# Altium footprint library conics_pcb_alt.PcbLib: 49 footprints (part 1 of 4)
Each footprint in its own frame and in the unit in brackets; x right, y up, seen from the top. Pads: shape width x height; smd on the part's side, far side on the other; paste and mask are expansions set on the pad; w line width, h text height; cw(c..) or ccw(c..) is an arc to the next point about the centre after c.
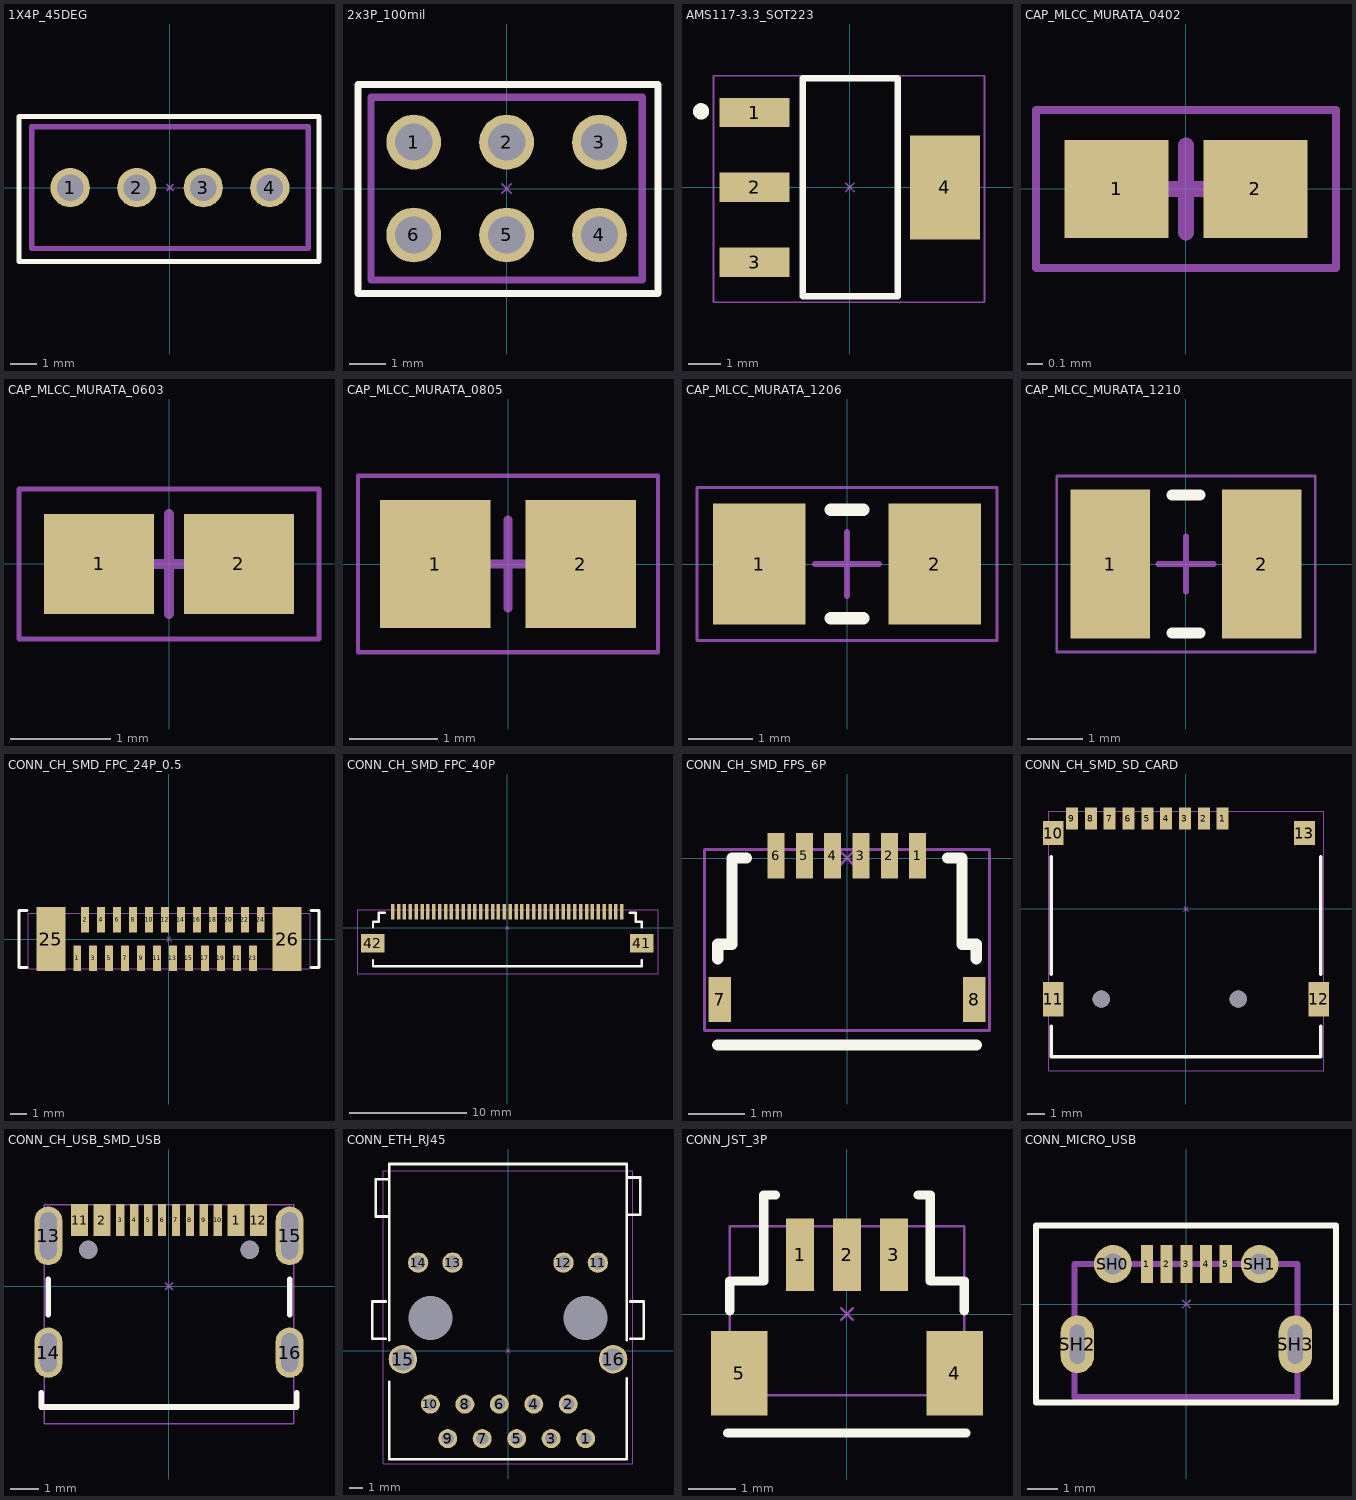
[diagram p0: the footprints below, top view; thin cyan lines are the x and y axes]

## 1X4P_45DEG [mm]
pads (4):
  round 1.5 hole 1.02: 1(-3.81,0) 2(-1.27,0) 3(1.27,0) 4(3.81,0)
Top Overlay:
  lines w0.2: -5.766,-2.819 5.69,-2.819 5.69,2.718 -5.766,2.718 -5.766,-2.819
Mechanical 15:
  lines w0.051: -0.127,-0.127 0,0 ; -0.127,0.127 0,0 ; 0.127,-0.127 0,0 ; 0.127,0.127 0,0
  lines w0.2: -5.28,-2.325 5.28,-2.325 5.28,2.325 -5.28,2.325 -5.28,-2.325
  text "'.Designator'" at -4.892,0.415 h1.02
3D body "DS1022_black_1x04p_100mil_TypeD_rev1.0.STEP": height 2.5, standoff -3, extent -5.029,-0.305 5.131,10.055

## 2x3P_100mil [mm]
pads (6):
  round 1.5 hole 1.02: 1(-2.54,1.27) 2(0,1.27) 3(2.54,1.27) 4(2.54,-1.27) 5(0,-1.27) 6(-2.54,-1.27)
Top Overlay:
  lines w0.2: -4.064,-2.87 4.14,-2.87 4.14,2.845 -4.064,2.845 -4.064,-2.87
Mechanical 15:
  lines w0.051: -0.127,-0.127 0,0 ; -0.127,0.127 0,0 ; 0.127,-0.127 0,0 ; 0.127,0.127 0,0
  lines w0.2: -3.71,-2.5 3.71,-2.5 3.71,2.5 -3.71,2.5 -3.71,-2.5
  text "'.Designator'" at -3.469,0.466 h1.02
3D body "DS1021_yellow_2x03p_100mil_Type1_rev1.0.STEP": height 8.55, standoff -3, extent -3.81,-2.495 3.81,2.505

## AMS117-3.3_SOT223 [mm] "SOT223, 4-Leads, Body 6,50x7,00mm (avg), Pitch 2,30mm, IPC Medium Density"
height 1.8
pads (4):
  rect 2.15x0.9 smd: 1(-2.925,2.3) 2(-2.925,0) 3(-2.925,-2.3)
  rect 2.15x3.2 smd: 4(2.925,0)
Top Overlay:
  circle w0.25: c-4.572,2.337 r0.125
  lines w0.2: -1.448,-3.35 1.473,-3.35 1.473,3.35 -1.448,3.35 -1.448,-3.35
Mechanical 15:
  circle w0.25: c-4.572,2.337 r0.1
  lines w0.051: -0.127,-0.127 0,0 ; -0.127,0.127 0,0 ; 0.127,-0.127 0,0 ; 0.127,0.127 0,0 ; -4.191,-3.531 4.14,-3.531 4.14,3.429 -4.191,3.429 -4.191,-3.531
  text "'.Designator'" at -3.861,-0.229 h0.76
3D body "AMS117-3.3.STEP": height 1.85, standoff -0.01, extent -3.499,-3.274 3.5,3.226

## CAP_MLCC_MURATA_0402 [mm]
height 0.55
pads (2):
  rect 0.66x0.62 smd: 1(-0.44,0) 2(0.44,0)
Mechanical 15:
  lines w0.05: -0.95,-0.5 0.95,-0.5 0.95,0.5 -0.95,0.5 -0.95,-0.5
  lines w0.1: -0.275,0 0.275,0 ; 0,-0.275 0,0.275
  text "'.Designator'" at -1.336,-0.144 h1.02
3D body "C0402.STEP": height 0.5, standoff 0, extent -0.496,-0.247 0.504,0.253

## CAP_MLCC_MURATA_0603 [mm]
height 1
pads (2):
  rect 1.1x1 smd: 1(-0.7,0) 2(0.7,0)
Mechanical 15:
  lines w0.05: -1.5,-0.75 1.5,-0.75 1.5,0.75 -1.5,0.75 -1.5,-0.75
  lines w0.1: -0.5,0 0.5,0 ; 0,-0.5 0,0.5
  text "'.Designator'" at -1.844,-0.347 h1.02
3D body "C0603.STEP": height 0.8, standoff 0, extent -0.797,-0.401 0.803,0.399

## CAP_MLCC_MURATA_0805 [mm]
height 1.45
pads (2):
  rect 1.25x1.45 smd: 1(-0.825,0) 2(0.825,0)
Mechanical 15:
  lines w0.05: -1.7,-1 -1.7,1 1.7,1 1.7,-1 -1.7,-1
  lines w0.1: -0.5,0 0.5,0 ; 0,-0.5 0,0.5
  text "'.Designator'" at -1.183,-0.525 h1.02
3D body "C0805B.STEP": height 0.8, standoff 0, extent -1,-0.625 1,0.625

## CAP_MLCC_MURATA_1206 [mm]
height 1.9
pads (2):
  rect 1.45x1.9 smd: 1(-1.375,0) 2(1.375,0)
Top Overlay:
  lines w0.2: -0.25,-0.85 0.25,-0.85 ; -0.25,0.85 0.25,0.85
Mechanical 15:
  lines w0.05: -2.35,-1.2 -2.35,1.2 2.35,1.2 2.35,-1.2 -2.35,-1.2
  lines w0.1: -0.5,0 0.5,0 ; 0,-0.5 0,0.5
  text "'.Designator'" at -1.793,-0.55 h1.02
3D body "C1206C.STEP": height 0.95, standoff 0, extent -1.6,-0.8 1.6,0.8

## CAP_MLCC_MURATA_1210 [mm]
height 2.7
pads (2):
  rect 1.45x2.7 smd: 1(-1.375,0) 2(1.375,0)
Top Overlay:
  lines w0.2: -0.25,-1.25 0.25,-1.25 ; -0.25,1.25 0.25,1.25
Mechanical 15:
  lines w0.05: -2.35,-1.6 -2.35,1.6 2.35,1.6 2.35,-1.6 -2.35,-1.6
  lines w0.1: -0.5,0 0.5,0 ; 0,-0.5 0,0.5
  text "'.Designator'" at -1.539,-0.525 h1.02
3D body "C1210C.STEP": height 0.95, standoff 0, extent -1.611,-1.242 1.589,1.258

## CONN_CH_SMD_FPC_24P_0.5 [mm] "SMD FPC Connector 24 Pins"
pads (26):
  rect 0.5x1.6 smd: 1(-5.75,-1.2) 2(-5.25,1.2) 3(-4.75,-1.2) 4(-4.25,1.2) 5(-3.75,-1.2) 6(-3.25,1.2) 7(-2.75,-1.2) 8(-2.25,1.2) 9(-1.75,-1.2) 10(-1.25,1.2) 11(-0.75,-1.2) 12(-0.25,1.2) 13(0.25,-1.2) 14(0.75,1.2) 15(1.25,-1.2) 16(1.75,1.2) 17(2.25,-1.2) 18(2.75,1.2) 19(3.25,-1.2) 20(3.75,1.2) 21(4.25,-1.2) 22(4.75,1.2) 23(5.25,-1.2) 24(5.75,1.2)
  rect 1.8x4 smd: 25(-7.4,0) 26(7.4,0)
Top Overlay:
  lines w0.2: -8.89,-1.778 -9.398,-1.778 -9.398,1.778 -8.89,1.778 ; 8.89,-1.778 9.398,-1.778 9.398,1.778 8.89,1.778
Mechanical 15:
  lines w0.05: -8.814,-1.86 -8.814,1.619 8.864,1.619 8.864,-1.86 -8.814,-1.86
  lines w0.051: -0.127,-0.127 0,0 ; -0.127,0.127 0,0 ; 0.127,-0.127 0,0 ; 0.127,0.127 0,0
  text "'.Designator'" at -4.014,-0.209 h0.76
3D body "conn_FPC_24P_VT.step": height 5.1, standoff 0, extent -8.8,-1.883 8.9,1.617

## CONN_CH_SMD_FPC_40P [mm]
pads (42):
  rect 0.3x1.3 smd: 1(9.75,1.34) 2(9.25,1.34) 3(8.75,1.34) 4(8.25,1.34) 5(7.75,1.34) 6(7.25,1.34) 7(6.75,1.34) 8(6.25,1.34) 9(5.75,1.34) 10(5.25,1.34) 11(4.75,1.34) 12(4.25,1.34) 13(3.75,1.34) 14(3.25,1.34) 15(2.75,1.34) 16(2.25,1.34) 17(1.75,1.34) 18(1.25,1.34) 19(0.75,1.34) 20(0.25,1.34) 21(-0.25,1.34) 22(-0.75,1.34) 23(-1.25,1.34) 24(-1.75,1.34) 25(-2.25,1.34) 26(-2.75,1.34) 27(-3.25,1.34) 28(-3.75,1.34) 29(-4.25,1.34) 30(-4.75,1.34) 31(-5.25,1.34) 32(-5.75,1.34) 33(-6.25,1.34) 34(-6.75,1.34) 35(-7.25,1.34) 36(-7.75,1.34) 37(-8.25,1.34) 38(-8.75,1.34) 39(-9.25,1.34) 40(-9.75,1.34)
  rect 2x1.6 smd: 41(11.45,-1.34) 42(-11.45,-1.34)
Top Overlay:
  lines w0.2: -11.43,-2.794 -11.43,-3.302 11.43,-3.302 11.43,-2.794 ; -11.43,0 -11.43,0.508 -10.922,0.508 -10.922,1.27 -10.414,1.27 ; 10.414,1.27 10.922,1.27 10.922,0.508 11.43,0.508 11.43,0
Mechanical 15:
  lines w0.05: -12.7,-3.937 -12.7,1.524 12.827,1.524 12.827,-3.937 -12.7,-3.937
  lines w0.051: -0.127,-0.127 0,0 ; -0.127,0.127 0,0 ; 0.127,-0.127 0,0 ; 0.127,0.127 0,0
  text "'.Designator'" at -4.013,-1.6 h0.76
3D body "FFC_40P.stp": height 2.02, standoff -0.02, extent -12.721,-3.908 12.779,1.492

## CONN_CH_SMD_FPS_6P [mm]
pads (8):
  rect 0.3x0.8 smd: 1(1.247,0.043) 2(0.747,0.043) 3(0.247,0.043) 4(-0.253,0.043) 5(-0.753,0.043) 6(-1.253,0.043)
  rect 0.4x0.8 smd: 7(-2.25,-2.5) 8(2.25,-2.5)
Top Overlay:
  lines w0.2: -2.286,-3.302 2.286,-3.302 ; -2.286,-1.778 -2.286,-1.524 -2.032,-1.524 -2.032,0 -1.778,0 ; 1.778,0 2.032,0 2.032,-1.524 2.286,-1.524 2.286,-1.778
Mechanical 15:
  lines w0.05: -2.515,-3.048 -2.515,0.152 2.515,0.152 2.515,-3.048 -2.515,-3.048
  lines w0.051: -0.127,-0.127 0,0 ; -0.127,0.127 0,0 ; 0.127,-0.127 0,0 ; 0.127,0.127 0,0
  text "'.Designator'" at -1.676,-1.829 h0.76
3D body "conn_FPC_6P.step": height 1.45, standoff 0, extent -2.5,-3.048 2.5,0.152

## CONN_CH_SMD_SD_CARD [mm]
pads (15):
  rect 0.7x1.3 smd: 1(2.14,5.275) 2(1.04,5.275) 3(-0.06,5.275) 4(-1.16,5.275) 5(-2.26,5.275) 6(-3.36,5.275) 7(-4.46,5.275) 8(-5.56,5.275) 9(-6.66,5.275)
  rect 1.2x1.4 smd paste+0: 10(-7.76,4.425) 13(6.92,4.425)
  rect 1.2x2 smd: 11(-7.76,-5.275) 12(7.76,-5.275)
  round 1 hole 1 unplated: ""(-4.95,-5.275) ""(3.05,-5.275)
Top Overlay:
  lines w0.2: -7.874,-6.858 -7.874,-8.636 7.874,-8.636 7.874,-6.858 ; -7.874,-3.81 -7.874,3.048 ; 7.874,-3.81 7.874,3.048
Mechanical 15:
  lines w0.05: -8.026,-9.449 8.052,-9.449 8.052,5.69 -8.026,5.69 -8.026,-9.449
  lines w0.051: -0.127,-0.127 0,0 ; -0.127,0.127 0,0 ; 0.127,-0.127 0,0 ; 0.127,0.127 0,0
  text "'.Designator'" at -3.782,-1.948 h0.76
3D body "connector_SD_CARD.STEP": height 2, standoff -0.45, extent -8.098,-9.528 8.002,5.672

## CONN_CH_USB_SMD_USB [mm]
pads (18):
  rect 0.6x1.15 smd: 1(2.4,2.372) 2(-2.4,2.372) 11(-3.2,2.372) 12(3.2,2.372)
  rect 0.3x1.15 smd: 3(-1.75,2.372) 4(-1.25,2.372) 5(-0.75,2.372) 6(-0.25,2.372) 7(0.25,2.372) 8(0.75,2.372) 9(1.25,2.372) 10(1.75,2.372)
  oval 1x2.1 hole 0.6 slot 1.7 at 90 deg: 13(-4.32,1.807) 15(4.32,1.807)
  oval 1x1.8 hole 0.6 slot 1.4 at 90 deg: 14(-4.32,-2.372) 16(4.32,-2.372)
  round 0.65 hole 0.65 unplated: ""(-2.89,1.308) ""(2.89,1.308)
Top Overlay:
  lines w0.2: -4.572,-3.81 -4.572,-4.318 4.572,-4.318 4.572,-3.81 ; -4.318,-1.016 -4.318,0.254 ; 4.318,-1.016 4.318,0.254
Mechanical 15:
  lines w0.05: -4.47,-4.928 -4.47,2.921 4.47,2.921 4.47,-4.928 -4.47,-4.928
  lines w0.051: -0.127,-0.127 0,0 ; -0.127,0.127 0,0 ; 0.127,-0.127 0,0 ; 0.127,0.127 0,0
  text "'.Designator'" at -3.937,-0.762 h0.76
3D body "conn_USB_C_SMD.step": height 3.16, standoff -1.5, extent -4.47,-4.966 4.47,2.934

## CONN_ETH_RJ45 [mm]
pads (18):
  round 1.4 hole 0.89: 1(5.72,-6.485) 2(4.44,-3.945) 3(3.18,-6.485) 4(1.9,-3.945) 5(0.64,-6.485) 6(-0.64,-3.945) 7(-1.9,-6.485) 8(-3.18,-3.945) 9(-4.44,-6.485) 10(-5.72,-3.945)
  round 1.5 hole 1.02: 11(6.625,6.485) 12(4.085,6.485) 13(-4.085,6.485) 14(-6.625,6.485)
  round 2.1 hole 1.63: 15(-7.745,-0.645) 16(7.745,-0.645)
  round 0 hole 3.25 unplated: ""(-5.715,2.405) ""(5.715,2.405)
Top Overlay:
  lines w0.2: -9,0.875 -10,0.875 -10,3.625 -9,3.625 ; -8.75,-2.286 -8.75,-8 8.75,-8 8.75,-2.032 ; -8.75,0.762 -8.75,13.75 8.75,13.75 8.75,0.762 ; -8.75,9.875 -9.75,9.875 -9.75,12.625 -8.75,12.625 ; 8.75,10 9.75,10 9.75,12.75 8.75,12.75 ; 9,0.875 10,0.875 10,3.625 9,3.625
Mechanical 15:
  lines w0.05: -9.195,-8.357 9.195,-8.357 9.195,-8.128 9.195,13.259 -9.195,13.259 -9.195,-8.357
  lines w0.051: -0.127,-0.127 0,0 ; -0.127,0.127 0,0 ; 0.127,-0.127 0,0 ; 0.127,0.127 0,0
  text "'.Designator'" at -5.207,3.302 h0.76
3D body "RJ45-TH_HY931147C.step": height 15.17, standoff -3.02, extent -9.198,-8.36 9.198,13.25

## CONN_JST_3P [mm]
pads (5):
  rect 0.6x1.55 smd paste-2539.97: 1(-1,1.262) 2(0,1.262) 3(1,1.262)
  rect 1.2x1.8 smd: 4(2.3,-1.262) 5(-2.3,-1.262)
Top Overlay:
  lines w0.2: -2.54,-2.54 2.54,-2.54 ; -2.499,0.069 -2.499,0.704 -1.778,0.704 -1.778,2.54 -1.524,2.54 ; 1.524,2.54 1.778,2.54 1.778,0.704 2.499,0.704 2.499,0.069
Mechanical 15:
  lines w0.051: -0.127,-0.127 0,0 ; -0.127,0.127 0,0 ; 0.127,-0.127 0,0 ; 0.127,0.127 0,0 ; -2.499,-1.735 2.505,-1.735 2.505,1.872 -2.499,1.872 -2.499,-1.735
  text "'.Designator'" at -2.143,-0.389 h0.76
3D body "CONN-SMD_SR1.00-LS-3P.step": height 4.25, standoff -0.01, extent -2.493,-1.722 2.507,1.889

## CONN_MICRO_USB [mm]
pads (9):
  rect 0.4x1.25 smd: 1(-1.3,1.325) 2(-0.65,1.325) 3(0,1.325) 4(0.65,1.325) 5(1.3,1.325)
  round 1.25 hole 0.7: SH0(-2.425,1.325) SH1(2.425,1.325)
  oval 1.1x1.9 hole 0.5 slot 1.3 at 90 deg: SH2(-3.6,-1.325) SH3(3.6,-1.325)
Top Overlay:
  lines w0.2: -4.965,-3.247 4.941,-3.247 4.941,2.595 -4.965,2.595 -4.965,-3.247
Mechanical 15:
  lines w0.051: -0.127,-0.127 0,0 ; -0.127,0.127 0,0 ; 0.127,-0.127 0,0 ; 0.127,0.127 0,0
  lines w0.2: -3.695,-3.075 3.671,-3.075 3.671,1.325 -3.695,1.325 -3.695,-3.075
  text "'.Designator'" at -3.583,-1.435 h1.02
3D body "Micro USB-B Female 5Pin SMD.STEP": height 2.7, standoff -1.02, extent -4.025,-3.894 4.025,1.906